# Altium schematic symbol library Adapter.SchLib: 1 symbol
Pins are listed as number, name and electrical type; pins without a type are passive.

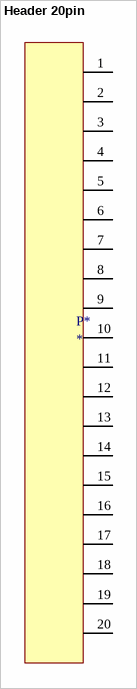
[diagram p0: symbol Header 20pin]

## Header 20pin
designator P*
footprint Header 2.00 2x10
footprint Header 2.54 2x10
pins: 1, 2, 3, 4, 5, 6, 7, 8, 9, 10, 11, 12, 13, 14, 15, 16, 17, 18, 19, 20